# EAGLE library part MC14050BDR2G (library ON_Semiconductor_By_element14_Batch_1)
Hex Buffer
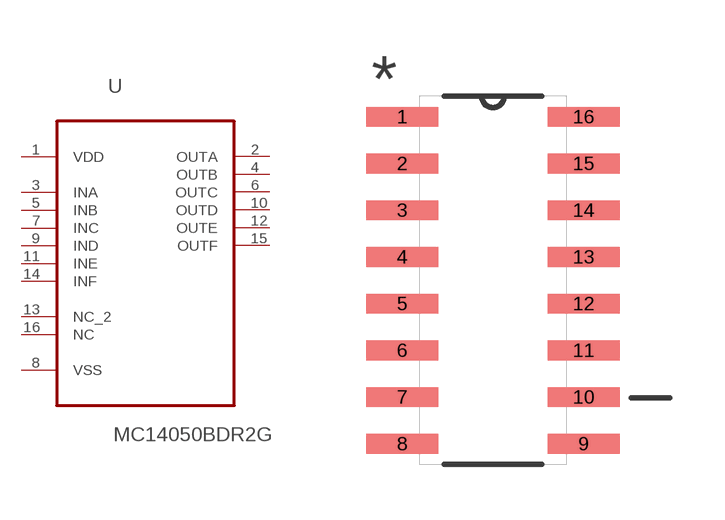
[diagram p239: symbol with the pads of SOIC127P600X175-16N; footprint SOIC127P600X175-16N]

Designator prefix U

## MC14050BDR2G (MPN: MC14050BDR2G; OC_FARNELL: 1365191; OC_NEWARK: 84K8745; PACKAGE: SOIC-16; SUPPLIER: ON SEMICONDUCTOR)  [SOIC127P600X175-16N]
1  VDD  pwr
2  OUTA  out
3  INA  in
4  OUTB  out
5  INB  in
6  OUTC  out
7  INC  in
8  VSS  pas
9  IND  in
10  OUTD  out
11  INE  in
12  OUTE  out
13  NC_2  nc
14  INF  in
15  OUTF  out
16  NC  nc

## Footprint SOIC127P600X175-16N (pad centres in mm)
smd 1.956 x 0.533: 1 -2.464,4.445; 2 -2.464,3.175; 3 -2.464,1.905; 4 -2.464,0.635; 5 -2.464,-0.635; 6 -2.464,-1.905; 7 -2.464,-3.175; 8 -2.464,-4.445; 9 2.464,-4.445; 10 2.464,-3.175; 11 2.464,-1.905; 12 2.464,-0.635; 13 2.464,0.635; 14 2.464,1.905; 15 2.464,3.175; 16 2.464,4.445